# Altium integrated library ST Microcontroller 8-Bit.IntLib: 1326 symbols (part 30 of 45)
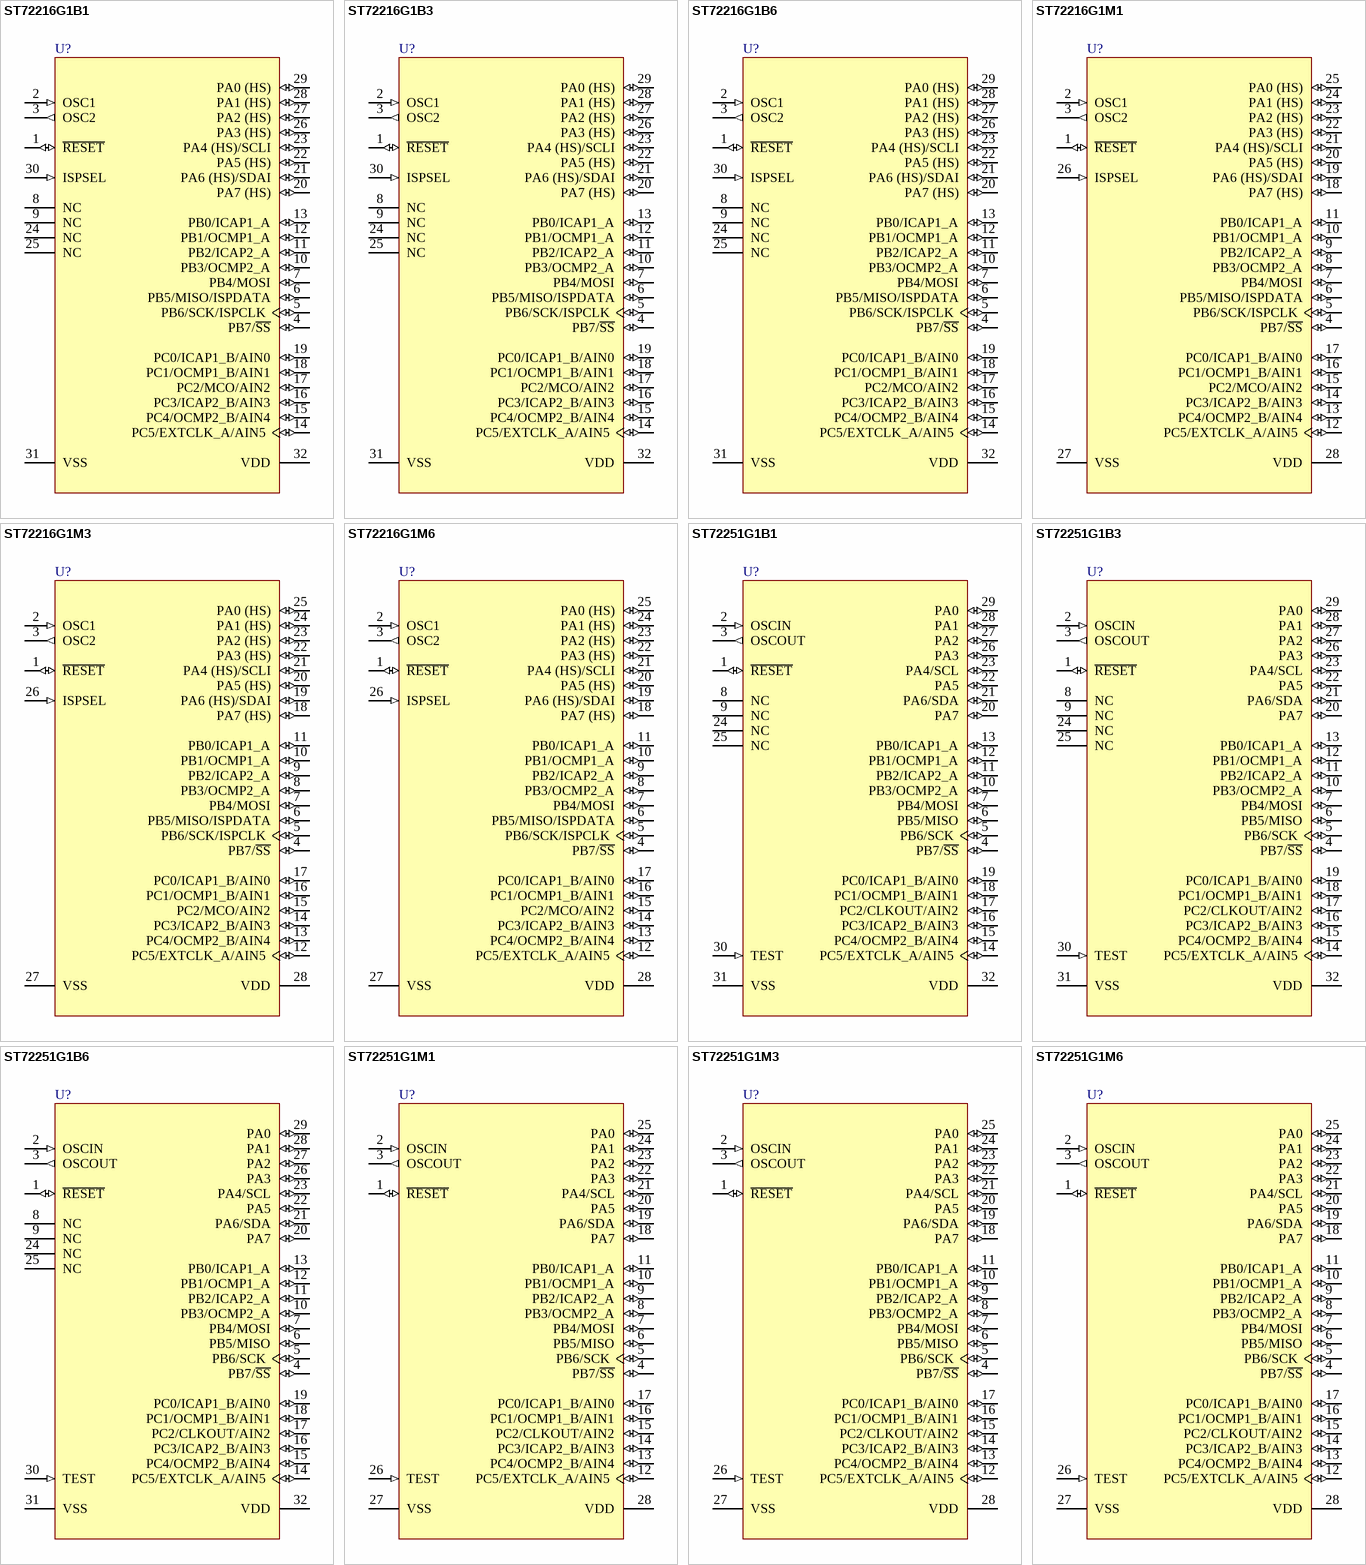
[diagram p196: symbols ST72216G1B1 to ST72251G1M6]

## ST72216G1M1
designator U?
8-Bit 4k ROM MCU, 256b RAM, WDG, ADC, 16-Bit Timer, SPI Interface, 28-Pin SOIC, Standard; Note: Pins 4-25 are External Interrupt (EI) pins.; Published: 26-May-2004; LatestRevisionDate: 13-Apr-2006; LatestRevisionNote: IPC-7351 Footprint Added.; DatasheetVersion: rev2.6, Nov-2000; PackageVersion: Jul-2001; PackageReference: SO28; Publisher: Altium Limited; PackageDescription: 28-Pin Plastic Small Outline Integrated Circuit 1.27 mm Pitch; ComponentLink1Description: Manufacturer Link; ComponentLink1URL: http://www.st.com/; ComponentLink2Description: Datasheet; ComponentLink2URL: http://www.st.com/stonline/products/literature/ds/6815/st72216g1.pdf
footprint SO28_N (SOIC, 28-Leads, Body 17.9x7.5mm, Pitch 1.27mm, IPC Medium Density)
footprint SO28_L (SOIC, 28-Leads, Body 17.9x7.5mm, Pitch 1.27mm, IPC High Density)
footprint SO28_M (SOIC, 28-Leads, Body 17.9x7.5mm, Pitch 1.27mm, IPC Low Density)
3D model SO28 (28-Pin Plastic Small Outline Integrated Circuit 1.27 mm Pitch)
pins: 1 ~{RESET} (io), 2 OSC1 (in), 3 OSC2 (out), 4 PB7/~{SS} (io), 5 PB6/SCK/ISPCLK (io), 6 PB5/MISO/ISPDATA (io), 7 PB4/MOSI (io), 8 PB3/OCMP2_A (io), 9 PB2/ICAP2_A (io), 10 PB1/OCMP1_A (io), 11 PB0/ICAP1_A (io), 12 PC5/EXTCLK_A/AIN5 (io), 13 PC4/OCMP2_B/AIN4 (io), 14 PC3/ICAP2_B/AIN3 (io), 15 PC2/MCO/AIN2 (io), 16 PC1/OCMP1_B/AIN1 (io), 17 PC0/ICAP1_B/AIN0 (io), 18 PA7 (HS) (io), 19 PA6 (HS)/SDAI (io), 20 PA5 (HS) (io), 21 PA4 (HS)/SCLI (io), 22 PA3 (HS) (io), 23 PA2 (HS) (io), 24 PA1 (HS) (io), 25 PA0 (HS) (io), 26 ISPSEL (in), 27 VSS (power), 28 VDD (power)

## ST72216G1M3
designator U?
8-Bit 4k ROM MCU, 256b RAM, WDG, ADC, 16-Bit Timer, SPI Interface, 28-Pin SOIC, Automotive; Note: Pins 4-25 are External Interrupt (EI) pins.; Published: 26-May-2004; LatestRevisionDate: 13-Apr-2006; LatestRevisionNote: IPC-7351 Footprint Added.; DatasheetVersion: rev2.6, Nov-2000; PackageVersion: Jul-2001; PackageReference: SO28; Publisher: Altium Limited; PackageDescription: 28-Pin Plastic Small Outline Integrated Circuit 1.27 mm Pitch; ComponentLink1Description: Manufacturer Link; ComponentLink1URL: http://www.st.com/; ComponentLink2Description: Datasheet; ComponentLink2URL: http://www.st.com/stonline/products/literature/ds/6815/st72216g1.pdf
footprint SO28_N (SOIC, 28-Leads, Body 17.9x7.5mm, Pitch 1.27mm, IPC Medium Density)
footprint SO28_L (SOIC, 28-Leads, Body 17.9x7.5mm, Pitch 1.27mm, IPC High Density)
footprint SO28_M (SOIC, 28-Leads, Body 17.9x7.5mm, Pitch 1.27mm, IPC Low Density)
3D model SO28 (28-Pin Plastic Small Outline Integrated Circuit 1.27 mm Pitch)
pins: 1 ~{RESET} (io), 2 OSC1 (in), 3 OSC2 (out), 4 PB7/~{SS} (io), 5 PB6/SCK/ISPCLK (io), 6 PB5/MISO/ISPDATA (io), 7 PB4/MOSI (io), 8 PB3/OCMP2_A (io), 9 PB2/ICAP2_A (io), 10 PB1/OCMP1_A (io), 11 PB0/ICAP1_A (io), 12 PC5/EXTCLK_A/AIN5 (io), 13 PC4/OCMP2_B/AIN4 (io), 14 PC3/ICAP2_B/AIN3 (io), 15 PC2/MCO/AIN2 (io), 16 PC1/OCMP1_B/AIN1 (io), 17 PC0/ICAP1_B/AIN0 (io), 18 PA7 (HS) (io), 19 PA6 (HS)/SDAI (io), 20 PA5 (HS) (io), 21 PA4 (HS)/SCLI (io), 22 PA3 (HS) (io), 23 PA2 (HS) (io), 24 PA1 (HS) (io), 25 PA0 (HS) (io), 26 ISPSEL (in), 27 VSS (power), 28 VDD (power)

## ST72216G1M6
designator U?
8-Bit 4k ROM MCU, 256b RAM, WDG, ADC, 16-Bit Timer, SPI Interface, 28-Pin SOIC, Industrial; Note: Pins 4-25 are External Interrupt (EI) pins.; Published: 26-May-2004; LatestRevisionDate: 13-Apr-2006; LatestRevisionNote: IPC-7351 Footprint Added.; DatasheetVersion: rev2.6, Nov-2000; PackageVersion: Jul-2001; PackageReference: SO28; Publisher: Altium Limited; PackageDescription: 28-Pin Plastic Small Outline Integrated Circuit 1.27 mm Pitch; ComponentLink1Description: Manufacturer Link; ComponentLink1URL: http://www.st.com/; ComponentLink2Description: Datasheet; ComponentLink2URL: http://www.st.com/stonline/products/literature/ds/6815/st72216g1.pdf
footprint SO28_N (SOIC, 28-Leads, Body 17.9x7.5mm, Pitch 1.27mm, IPC Medium Density)
footprint SO28_L (SOIC, 28-Leads, Body 17.9x7.5mm, Pitch 1.27mm, IPC High Density)
footprint SO28_M (SOIC, 28-Leads, Body 17.9x7.5mm, Pitch 1.27mm, IPC Low Density)
3D model SO28 (28-Pin Plastic Small Outline Integrated Circuit 1.27 mm Pitch)
pins: 1 ~{RESET} (io), 2 OSC1 (in), 3 OSC2 (out), 4 PB7/~{SS} (io), 5 PB6/SCK/ISPCLK (io), 6 PB5/MISO/ISPDATA (io), 7 PB4/MOSI (io), 8 PB3/OCMP2_A (io), 9 PB2/ICAP2_A (io), 10 PB1/OCMP1_A (io), 11 PB0/ICAP1_A (io), 12 PC5/EXTCLK_A/AIN5 (io), 13 PC4/OCMP2_B/AIN4 (io), 14 PC3/ICAP2_B/AIN3 (io), 15 PC2/MCO/AIN2 (io), 16 PC1/OCMP1_B/AIN1 (io), 17 PC0/ICAP1_B/AIN0 (io), 18 PA7 (HS) (io), 19 PA6 (HS)/SDAI (io), 20 PA5 (HS) (io), 21 PA4 (HS)/SCLI (io), 22 PA3 (HS) (io), 23 PA2 (HS) (io), 24 PA1 (HS) (io), 25 PA0 (HS) (io), 26 ISPSEL (in), 27 VSS (power), 28 VDD (power)

## ST72251G1B1
designator U?
8-Bit MCU with 4k ROM, 256b RAM, ADC, WDG, SPI, I²C and Two Timers, 32-Pin PDIP, Standard; Published: 26-May-2004; LatestRevisionDate: 06-Jun-2005; LatestRevisionNote: Stylized 3D Model Added.; DatasheetVersion: rev1.9, Jun-2001; PackageVersion: rev1.7, Oct-2001; PackageReference: PSDIP32; Publisher: Altium Limited; PackageDescription: DIP, Plastic Shrink; 32 Leads; Row Spacing 10.16 mm; Pitch 1.78 mm; ComponentLink1Description: Manufacturer Link; ComponentLink1URL: http://www.st.com/; ComponentLink2Description: Datasheet; ComponentLink2URL: http://www.st.com/stonline/products/literature/ds/5277/st72251g1.pdf
footprint PSDIP32 (DIP, Plastic Shrink; 32 Leads; Row Spacing 10.16 mm; Pitch 1.78 mm)
3D model PSDIP32 (DIP, Plastic Shrink; 32 Leads; Row Spacing 10.16 mm; Pitch 1.78 mm)
pins: 1 ~{RESET} (io), 2 OSCIN (in), 3 OSCOUT (out), 4 PB7/~{SS} (io), 5 PB6/SCK (io), 6 PB5/MISO (io), 7 PB4/MOSI (io), 8 NC, 9 NC, 10 PB3/OCMP2_A (io), 11 PB2/ICAP2_A (io), 12 PB1/OCMP1_A (io), 13 PB0/ICAP1_A (io), 14 PC5/EXTCLK_A/AIN5 (io), 15 PC4/OCMP2_B/AIN4 (io), 16 PC3/ICAP2_B/AIN3 (io), 17 PC2/CLKOUT/AIN2 (io), 18 PC1/OCMP1_B/AIN1 (io), 19 PC0/ICAP1_B/AIN0 (io), 20 PA7 (io), 21 PA6/SDA (io), 22 PA5 (io), 23 PA4/SCL (io), 24 NC, 25 NC, 26 PA3 (io), 27 PA2 (io), 28 PA1 (io), 29 PA0 (io), 30 TEST (in), 31 VSS (power), 32 VDD (power)

## ST72251G1B3
designator U?
8-Bit MCU with 4k ROM, 256b RAM, ADC, WDG, SPI, I²C and Two Timers, 32-Pin PDIP, Automotive; Published: 26-May-2004; LatestRevisionDate: 06-Jun-2005; LatestRevisionNote: Stylized 3D Model Added.; DatasheetVersion: rev1.9, Jun-2001; PackageVersion: rev1.7, Oct-2001; PackageReference: PSDIP32; Publisher: Altium Limited; PackageDescription: DIP, Plastic Shrink; 32 Leads; Row Spacing 10.16 mm; Pitch 1.78 mm; ComponentLink1Description: Manufacturer Link; ComponentLink1URL: http://www.st.com/; ComponentLink2Description: Datasheet; ComponentLink2URL: http://www.st.com/stonline/products/literature/ds/5277/st72251g1.pdf
footprint PSDIP32 (DIP, Plastic Shrink; 32 Leads; Row Spacing 10.16 mm; Pitch 1.78 mm)
3D model PSDIP32 (DIP, Plastic Shrink; 32 Leads; Row Spacing 10.16 mm; Pitch 1.78 mm)
pins: 1 ~{RESET} (io), 2 OSCIN (in), 3 OSCOUT (out), 4 PB7/~{SS} (io), 5 PB6/SCK (io), 6 PB5/MISO (io), 7 PB4/MOSI (io), 8 NC, 9 NC, 10 PB3/OCMP2_A (io), 11 PB2/ICAP2_A (io), 12 PB1/OCMP1_A (io), 13 PB0/ICAP1_A (io), 14 PC5/EXTCLK_A/AIN5 (io), 15 PC4/OCMP2_B/AIN4 (io), 16 PC3/ICAP2_B/AIN3 (io), 17 PC2/CLKOUT/AIN2 (io), 18 PC1/OCMP1_B/AIN1 (io), 19 PC0/ICAP1_B/AIN0 (io), 20 PA7 (io), 21 PA6/SDA (io), 22 PA5 (io), 23 PA4/SCL (io), 24 NC, 25 NC, 26 PA3 (io), 27 PA2 (io), 28 PA1 (io), 29 PA0 (io), 30 TEST (in), 31 VSS (power), 32 VDD (power)

## ST72251G1B6
designator U?
8-Bit MCU with 4k ROM, 256b RAM, ADC, WDG, SPI, I²C and Two Timers, 32-Pin PDIP, Industrial; Published: 26-May-2004; LatestRevisionDate: 06-Jun-2005; LatestRevisionNote: Stylized 3D Model Added.; DatasheetVersion: rev1.9, Jun-2001; PackageVersion: rev1.7, Oct-2001; PackageReference: PSDIP32; Publisher: Altium Limited; PackageDescription: DIP, Plastic Shrink; 32 Leads; Row Spacing 10.16 mm; Pitch 1.78 mm; ComponentLink1Description: Manufacturer Link; ComponentLink1URL: http://www.st.com/; ComponentLink2Description: Datasheet; ComponentLink2URL: http://www.st.com/stonline/products/literature/ds/5277/st72251g1.pdf
footprint PSDIP32 (DIP, Plastic Shrink; 32 Leads; Row Spacing 10.16 mm; Pitch 1.78 mm)
3D model PSDIP32 (DIP, Plastic Shrink; 32 Leads; Row Spacing 10.16 mm; Pitch 1.78 mm)
pins: 1 ~{RESET} (io), 2 OSCIN (in), 3 OSCOUT (out), 4 PB7/~{SS} (io), 5 PB6/SCK (io), 6 PB5/MISO (io), 7 PB4/MOSI (io), 8 NC, 9 NC, 10 PB3/OCMP2_A (io), 11 PB2/ICAP2_A (io), 12 PB1/OCMP1_A (io), 13 PB0/ICAP1_A (io), 14 PC5/EXTCLK_A/AIN5 (io), 15 PC4/OCMP2_B/AIN4 (io), 16 PC3/ICAP2_B/AIN3 (io), 17 PC2/CLKOUT/AIN2 (io), 18 PC1/OCMP1_B/AIN1 (io), 19 PC0/ICAP1_B/AIN0 (io), 20 PA7 (io), 21 PA6/SDA (io), 22 PA5 (io), 23 PA4/SCL (io), 24 NC, 25 NC, 26 PA3 (io), 27 PA2 (io), 28 PA1 (io), 29 PA0 (io), 30 TEST (in), 31 VSS (power), 32 VDD (power)

## ST72251G1M1
designator U?
8-Bit MCU with 4k ROM, 256b RAM, ADC, WDG, SPI, I²C and Two Timers, 28-Pin SOIC, Standard; Published: 26-May-2004; LatestRevisionDate: 13-Apr-2006; LatestRevisionNote: IPC-7351 Footprint Added.; DatasheetVersion: rev1.9, Jun-2001; PackageVersion: Jul-2001; PackageReference: SO28; Publisher: Altium Limited; PackageDescription: 28-Pin Plastic Small Outline Integrated Circuit 1.27 mm Pitch; ComponentLink1Description: Manufacturer Link; ComponentLink1URL: http://www.st.com/; ComponentLink2Description: Datasheet; ComponentLink2URL: http://www.st.com/stonline/products/literature/ds/5277/st72251g1.pdf
footprint SO28_N (SOIC, 28-Leads, Body 17.9x7.5mm, Pitch 1.27mm, IPC Medium Density)
footprint SO28_L (SOIC, 28-Leads, Body 17.9x7.5mm, Pitch 1.27mm, IPC High Density)
footprint SO28_M (SOIC, 28-Leads, Body 17.9x7.5mm, Pitch 1.27mm, IPC Low Density)
3D model SO28 (28-Pin Plastic Small Outline Integrated Circuit 1.27 mm Pitch)
pins: 1 ~{RESET} (io), 2 OSCIN (in), 3 OSCOUT (out), 4 PB7/~{SS} (io), 5 PB6/SCK (io), 6 PB5/MISO (io), 7 PB4/MOSI (io), 8 PB3/OCMP2_A (io), 9 PB2/ICAP2_A (io), 10 PB1/OCMP1_A (io), 11 PB0/ICAP1_A (io), 12 PC5/EXTCLK_A/AIN5 (io), 13 PC4/OCMP2_B/AIN4 (io), 14 PC3/ICAP2_B/AIN3 (io), 15 PC2/CLKOUT/AIN2 (io), 16 PC1/OCMP1_B/AIN1 (io), 17 PC0/ICAP1_B/AIN0 (io), 18 PA7 (io), 19 PA6/SDA (io), 20 PA5 (io), 21 PA4/SCL (io), 22 PA3 (io), 23 PA2 (io), 24 PA1 (io), 25 PA0 (io), 26 TEST (in), 27 VSS (power), 28 VDD (power)

## ST72251G1M3
designator U?
8-Bit MCU with 4k ROM, 256b RAM, ADC, WDG, SPI, I²C and Two Timers, 28-Pin SOIC, Automotive; Published: 26-May-2004; LatestRevisionDate: 13-Apr-2006; LatestRevisionNote: IPC-7351 Footprint Added.; DatasheetVersion: rev1.9, Jun-2001; PackageVersion: Jul-2001; PackageReference: SO28; Publisher: Altium Limited; PackageDescription: 28-Pin Plastic Small Outline Integrated Circuit 1.27 mm Pitch; ComponentLink1Description: Manufacturer Link; ComponentLink1URL: http://www.st.com/; ComponentLink2Description: Datasheet; ComponentLink2URL: http://www.st.com/stonline/products/literature/ds/5277/st72251g1.pdf
footprint SO28_N (SOIC, 28-Leads, Body 17.9x7.5mm, Pitch 1.27mm, IPC Medium Density)
footprint SO28_L (SOIC, 28-Leads, Body 17.9x7.5mm, Pitch 1.27mm, IPC High Density)
footprint SO28_M (SOIC, 28-Leads, Body 17.9x7.5mm, Pitch 1.27mm, IPC Low Density)
3D model SO28 (28-Pin Plastic Small Outline Integrated Circuit 1.27 mm Pitch)
pins: 1 ~{RESET} (io), 2 OSCIN (in), 3 OSCOUT (out), 4 PB7/~{SS} (io), 5 PB6/SCK (io), 6 PB5/MISO (io), 7 PB4/MOSI (io), 8 PB3/OCMP2_A (io), 9 PB2/ICAP2_A (io), 10 PB1/OCMP1_A (io), 11 PB0/ICAP1_A (io), 12 PC5/EXTCLK_A/AIN5 (io), 13 PC4/OCMP2_B/AIN4 (io), 14 PC3/ICAP2_B/AIN3 (io), 15 PC2/CLKOUT/AIN2 (io), 16 PC1/OCMP1_B/AIN1 (io), 17 PC0/ICAP1_B/AIN0 (io), 18 PA7 (io), 19 PA6/SDA (io), 20 PA5 (io), 21 PA4/SCL (io), 22 PA3 (io), 23 PA2 (io), 24 PA1 (io), 25 PA0 (io), 26 TEST (in), 27 VSS (power), 28 VDD (power)

## ST72251G1M6
designator U?
8-Bit MCU with 4k ROM, 256b RAM, ADC, WDG, SPI, I²C and Two Timers, 28-Pin SOIC, Industrial; Published: 26-May-2004; LatestRevisionDate: 13-Apr-2006; LatestRevisionNote: IPC-7351 Footprint Added.; DatasheetVersion: rev1.9, Jun-2001; PackageVersion: Jul-2001; PackageReference: SO28; Publisher: Altium Limited; PackageDescription: 28-Pin Plastic Small Outline Integrated Circuit 1.27 mm Pitch; ComponentLink1Description: Manufacturer Link; ComponentLink1URL: http://www.st.com/; ComponentLink2Description: Datasheet; ComponentLink2URL: http://www.st.com/stonline/products/literature/ds/5277/st72251g1.pdf
footprint SO28_N (SOIC, 28-Leads, Body 17.9x7.5mm, Pitch 1.27mm, IPC Medium Density)
footprint SO28_L (SOIC, 28-Leads, Body 17.9x7.5mm, Pitch 1.27mm, IPC High Density)
footprint SO28_M (SOIC, 28-Leads, Body 17.9x7.5mm, Pitch 1.27mm, IPC Low Density)
3D model SO28 (28-Pin Plastic Small Outline Integrated Circuit 1.27 mm Pitch)
pins: 1 ~{RESET} (io), 2 OSCIN (in), 3 OSCOUT (out), 4 PB7/~{SS} (io), 5 PB6/SCK (io), 6 PB5/MISO (io), 7 PB4/MOSI (io), 8 PB3/OCMP2_A (io), 9 PB2/ICAP2_A (io), 10 PB1/OCMP1_A (io), 11 PB0/ICAP1_A (io), 12 PC5/EXTCLK_A/AIN5 (io), 13 PC4/OCMP2_B/AIN4 (io), 14 PC3/ICAP2_B/AIN3 (io), 15 PC2/CLKOUT/AIN2 (io), 16 PC1/OCMP1_B/AIN1 (io), 17 PC0/ICAP1_B/AIN0 (io), 18 PA7 (io), 19 PA6/SDA (io), 20 PA5 (io), 21 PA4/SCL (io), 22 PA3 (io), 23 PA2 (io), 24 PA1 (io), 25 PA0 (io), 26 TEST (in), 27 VSS (power), 28 VDD (power)

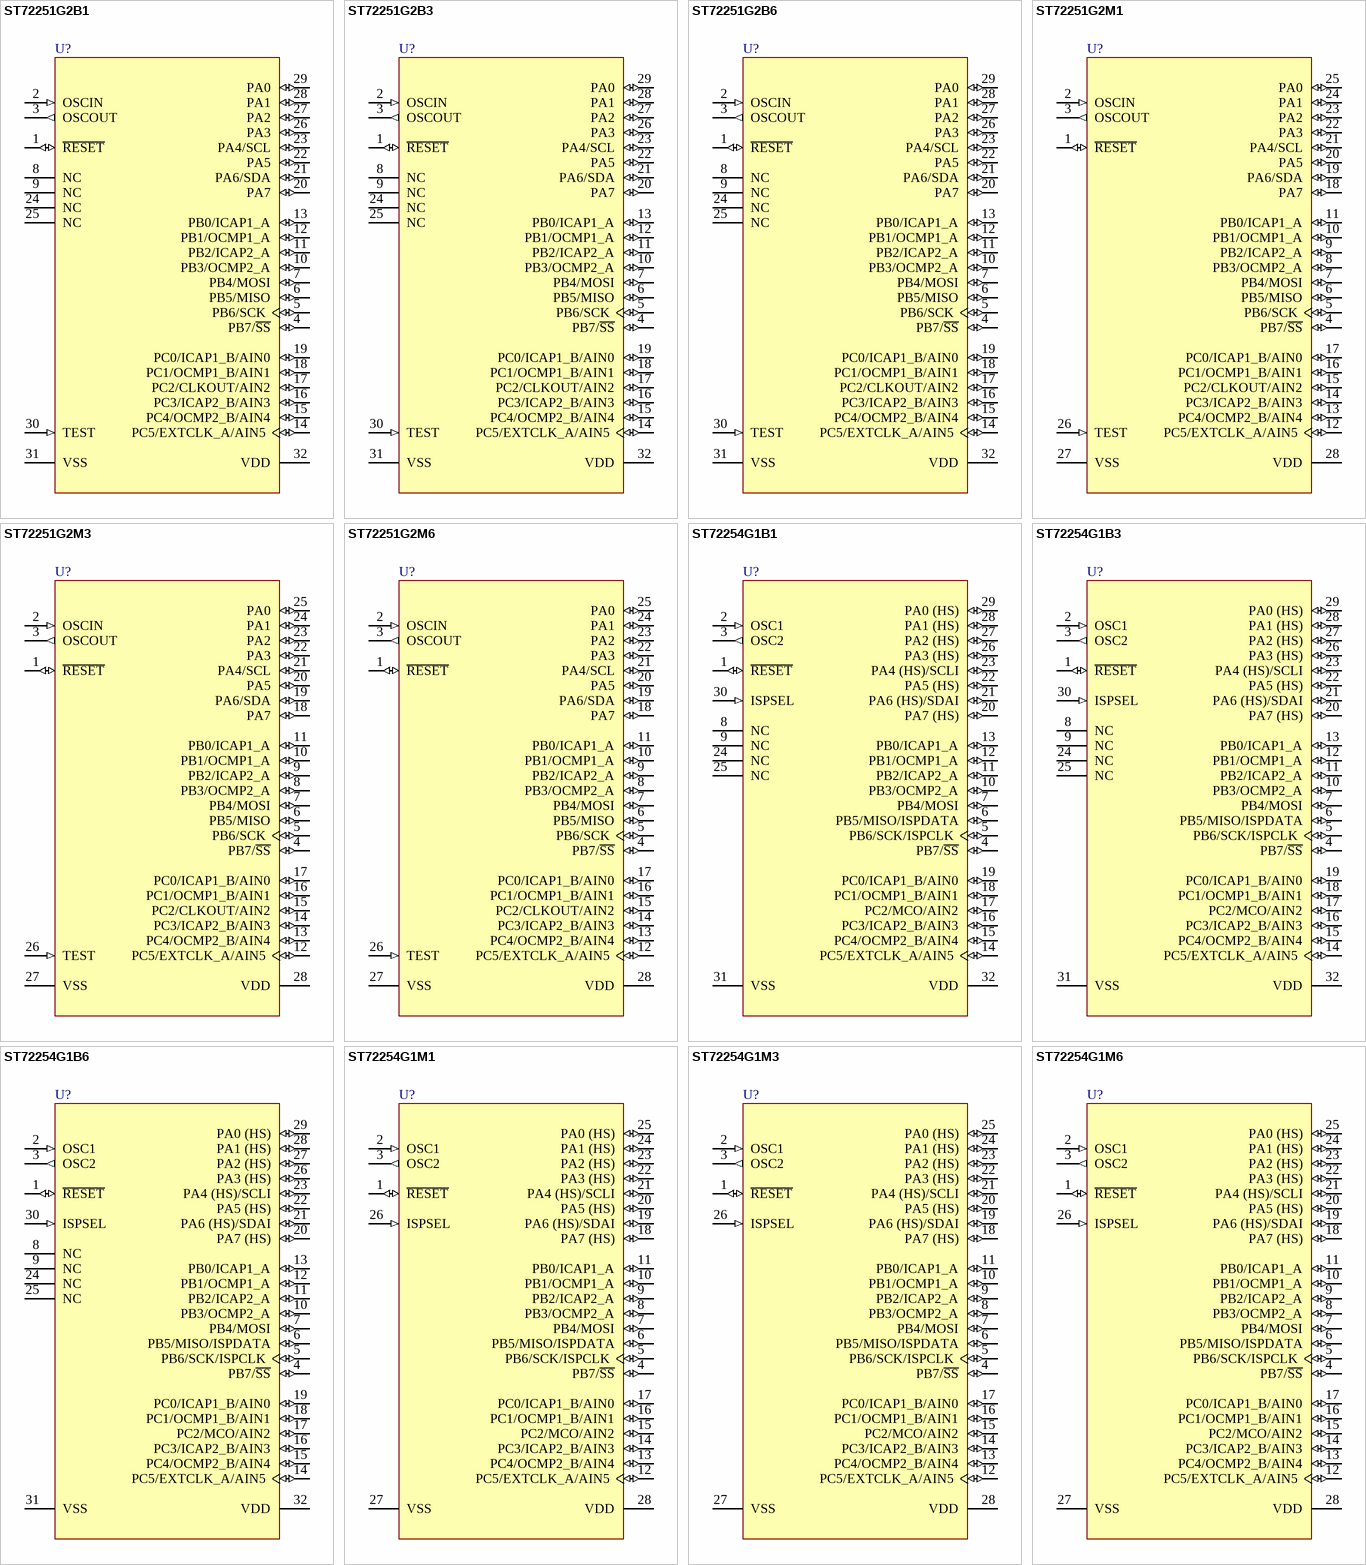
[diagram p101: symbols ST72251G2B1 to ST72254G1M6]

## ST72251G2B1
designator U?
8-Bit MCU with 8k ROM, 256b RAM, ADC, WDG, SPI, I²C and Two Timers, 32-Pin PDIP, Standard; Published: 26-May-2004; LatestRevisionDate: 06-Jun-2005; LatestRevisionNote: Stylized 3D Model Added.; DatasheetVersion: rev1.9, Jun-2001; PackageVersion: rev1.7, Oct-2001; PackageReference: PSDIP32; Publisher: Altium Limited; PackageDescription: DIP, Plastic Shrink; 32 Leads; Row Spacing 10.16 mm; Pitch 1.78 mm; ComponentLink1Description: Manufacturer Link; ComponentLink1URL: http://www.st.com/; ComponentLink2Description: Datasheet; ComponentLink2URL: http://www.st.com/stonline/products/literature/ds/5277/st72251g1.pdf
footprint PSDIP32 (DIP, Plastic Shrink; 32 Leads; Row Spacing 10.16 mm; Pitch 1.78 mm)
3D model PSDIP32 (DIP, Plastic Shrink; 32 Leads; Row Spacing 10.16 mm; Pitch 1.78 mm)
pins: 1 ~{RESET} (io), 2 OSCIN (in), 3 OSCOUT (out), 4 PB7/~{SS} (io), 5 PB6/SCK (io), 6 PB5/MISO (io), 7 PB4/MOSI (io), 8 NC, 9 NC, 10 PB3/OCMP2_A (io), 11 PB2/ICAP2_A (io), 12 PB1/OCMP1_A (io), 13 PB0/ICAP1_A (io), 14 PC5/EXTCLK_A/AIN5 (io), 15 PC4/OCMP2_B/AIN4 (io), 16 PC3/ICAP2_B/AIN3 (io), 17 PC2/CLKOUT/AIN2 (io), 18 PC1/OCMP1_B/AIN1 (io), 19 PC0/ICAP1_B/AIN0 (io), 20 PA7 (io), 21 PA6/SDA (io), 22 PA5 (io), 23 PA4/SCL (io), 24 NC, 25 NC, 26 PA3 (io), 27 PA2 (io), 28 PA1 (io), 29 PA0 (io), 30 TEST (in), 31 VSS (power), 32 VDD (power)

## ST72251G2B3
designator U?
8-Bit MCU with 8k ROM, 256b RAM, ADC, WDG, SPI, I²C and Two Timers, 32-Pin PDIP, Automotive; Published: 26-May-2004; LatestRevisionDate: 06-Jun-2005; LatestRevisionNote: Stylized 3D Model Added.; DatasheetVersion: rev1.9, Jun-2001; PackageVersion: rev1.7, Oct-2001; PackageReference: PSDIP32; Publisher: Altium Limited; PackageDescription: DIP, Plastic Shrink; 32 Leads; Row Spacing 10.16 mm; Pitch 1.78 mm; ComponentLink1Description: Manufacturer Link; ComponentLink1URL: http://www.st.com/; ComponentLink2Description: Datasheet; ComponentLink2URL: http://www.st.com/stonline/products/literature/ds/5277/st72251g1.pdf
footprint PSDIP32 (DIP, Plastic Shrink; 32 Leads; Row Spacing 10.16 mm; Pitch 1.78 mm)
3D model PSDIP32 (DIP, Plastic Shrink; 32 Leads; Row Spacing 10.16 mm; Pitch 1.78 mm)
pins: 1 ~{RESET} (io), 2 OSCIN (in), 3 OSCOUT (out), 4 PB7/~{SS} (io), 5 PB6/SCK (io), 6 PB5/MISO (io), 7 PB4/MOSI (io), 8 NC, 9 NC, 10 PB3/OCMP2_A (io), 11 PB2/ICAP2_A (io), 12 PB1/OCMP1_A (io), 13 PB0/ICAP1_A (io), 14 PC5/EXTCLK_A/AIN5 (io), 15 PC4/OCMP2_B/AIN4 (io), 16 PC3/ICAP2_B/AIN3 (io), 17 PC2/CLKOUT/AIN2 (io), 18 PC1/OCMP1_B/AIN1 (io), 19 PC0/ICAP1_B/AIN0 (io), 20 PA7 (io), 21 PA6/SDA (io), 22 PA5 (io), 23 PA4/SCL (io), 24 NC, 25 NC, 26 PA3 (io), 27 PA2 (io), 28 PA1 (io), 29 PA0 (io), 30 TEST (in), 31 VSS (power), 32 VDD (power)

## ST72251G2B6
designator U?
8-Bit MCU with 8k ROM, 256b RAM, ADC, WDG, SPI, I²C and Two Timers, 32-Pin PDIP, Industrial; Published: 26-May-2004; LatestRevisionDate: 06-Jun-2005; LatestRevisionNote: Stylized 3D Model Added.; DatasheetVersion: rev1.9, Jun-2001; PackageVersion: rev1.7, Oct-2001; PackageReference: PSDIP32; Publisher: Altium Limited; PackageDescription: DIP, Plastic Shrink; 32 Leads; Row Spacing 10.16 mm; Pitch 1.78 mm; ComponentLink1Description: Manufacturer Link; ComponentLink1URL: http://www.st.com/; ComponentLink2Description: Datasheet; ComponentLink2URL: http://www.st.com/stonline/products/literature/ds/5277/st72251g1.pdf
footprint PSDIP32 (DIP, Plastic Shrink; 32 Leads; Row Spacing 10.16 mm; Pitch 1.78 mm)
3D model PSDIP32 (DIP, Plastic Shrink; 32 Leads; Row Spacing 10.16 mm; Pitch 1.78 mm)
pins: 1 ~{RESET} (io), 2 OSCIN (in), 3 OSCOUT (out), 4 PB7/~{SS} (io), 5 PB6/SCK (io), 6 PB5/MISO (io), 7 PB4/MOSI (io), 8 NC, 9 NC, 10 PB3/OCMP2_A (io), 11 PB2/ICAP2_A (io), 12 PB1/OCMP1_A (io), 13 PB0/ICAP1_A (io), 14 PC5/EXTCLK_A/AIN5 (io), 15 PC4/OCMP2_B/AIN4 (io), 16 PC3/ICAP2_B/AIN3 (io), 17 PC2/CLKOUT/AIN2 (io), 18 PC1/OCMP1_B/AIN1 (io), 19 PC0/ICAP1_B/AIN0 (io), 20 PA7 (io), 21 PA6/SDA (io), 22 PA5 (io), 23 PA4/SCL (io), 24 NC, 25 NC, 26 PA3 (io), 27 PA2 (io), 28 PA1 (io), 29 PA0 (io), 30 TEST (in), 31 VSS (power), 32 VDD (power)

## ST72251G2M1
designator U?
8-Bit MCU with 8k ROM, 256b RAM, ADC, WDG, SPI, I²C and Two Timers, 28-Pin SOIC, Standard; Published: 26-May-2004; LatestRevisionDate: 13-Apr-2006; LatestRevisionNote: IPC-7351 Footprint Added.; DatasheetVersion: rev1.9, Jun-2001; PackageVersion: Jul-2001; PackageReference: SO28; Publisher: Altium Limited; PackageDescription: 28-Pin Plastic Small Outline Integrated Circuit 1.27 mm Pitch; ComponentLink1Description: Manufacturer Link; ComponentLink1URL: http://www.st.com/; ComponentLink2Description: Datasheet; ComponentLink2URL: http://www.st.com/stonline/products/literature/ds/5277/st72251g1.pdf
footprint SO28_N (SOIC, 28-Leads, Body 17.9x7.5mm, Pitch 1.27mm, IPC Medium Density)
footprint SO28_L (SOIC, 28-Leads, Body 17.9x7.5mm, Pitch 1.27mm, IPC High Density)
footprint SO28_M (SOIC, 28-Leads, Body 17.9x7.5mm, Pitch 1.27mm, IPC Low Density)
3D model SO28 (28-Pin Plastic Small Outline Integrated Circuit 1.27 mm Pitch)
pins: 1 ~{RESET} (io), 2 OSCIN (in), 3 OSCOUT (out), 4 PB7/~{SS} (io), 5 PB6/SCK (io), 6 PB5/MISO (io), 7 PB4/MOSI (io), 8 PB3/OCMP2_A (io), 9 PB2/ICAP2_A (io), 10 PB1/OCMP1_A (io), 11 PB0/ICAP1_A (io), 12 PC5/EXTCLK_A/AIN5 (io), 13 PC4/OCMP2_B/AIN4 (io), 14 PC3/ICAP2_B/AIN3 (io), 15 PC2/CLKOUT/AIN2 (io), 16 PC1/OCMP1_B/AIN1 (io), 17 PC0/ICAP1_B/AIN0 (io), 18 PA7 (io), 19 PA6/SDA (io), 20 PA5 (io), 21 PA4/SCL (io), 22 PA3 (io), 23 PA2 (io), 24 PA1 (io), 25 PA0 (io), 26 TEST (in), 27 VSS (power), 28 VDD (power)

## ST72251G2M3
designator U?
8-Bit MCU with 8k ROM, 256b RAM, ADC, WDG, SPI, I²C and Two Timers, 28-Pin SOIC, Automotive; Published: 26-May-2004; LatestRevisionDate: 13-Apr-2006; LatestRevisionNote: IPC-7351 Footprint Added.; DatasheetVersion: rev1.9, Jun-2001; PackageVersion: Jul-2001; PackageReference: SO28; Publisher: Altium Limited; PackageDescription: 28-Pin Plastic Small Outline Integrated Circuit 1.27 mm Pitch; ComponentLink1Description: Manufacturer Link; ComponentLink1URL: http://www.st.com/; ComponentLink2Description: Datasheet; ComponentLink2URL: http://www.st.com/stonline/products/literature/ds/5277/st72251g1.pdf
footprint SO28_N (SOIC, 28-Leads, Body 17.9x7.5mm, Pitch 1.27mm, IPC Medium Density)
footprint SO28_L (SOIC, 28-Leads, Body 17.9x7.5mm, Pitch 1.27mm, IPC High Density)
footprint SO28_M (SOIC, 28-Leads, Body 17.9x7.5mm, Pitch 1.27mm, IPC Low Density)
3D model SO28 (28-Pin Plastic Small Outline Integrated Circuit 1.27 mm Pitch)
pins: 1 ~{RESET} (io), 2 OSCIN (in), 3 OSCOUT (out), 4 PB7/~{SS} (io), 5 PB6/SCK (io), 6 PB5/MISO (io), 7 PB4/MOSI (io), 8 PB3/OCMP2_A (io), 9 PB2/ICAP2_A (io), 10 PB1/OCMP1_A (io), 11 PB0/ICAP1_A (io), 12 PC5/EXTCLK_A/AIN5 (io), 13 PC4/OCMP2_B/AIN4 (io), 14 PC3/ICAP2_B/AIN3 (io), 15 PC2/CLKOUT/AIN2 (io), 16 PC1/OCMP1_B/AIN1 (io), 17 PC0/ICAP1_B/AIN0 (io), 18 PA7 (io), 19 PA6/SDA (io), 20 PA5 (io), 21 PA4/SCL (io), 22 PA3 (io), 23 PA2 (io), 24 PA1 (io), 25 PA0 (io), 26 TEST (in), 27 VSS (power), 28 VDD (power)

## ST72251G2M6
designator U?
8-Bit MCU with 8k ROM, 256b RAM, ADC, WDG, SPI, I²C and Two Timers, 28-Pin SOIC, Industrial; Published: 26-May-2004; LatestRevisionDate: 13-Apr-2006; LatestRevisionNote: IPC-7351 Footprint Added.; DatasheetVersion: rev1.9, Jun-2001; PackageVersion: Jul-2001; PackageReference: SO28; Publisher: Altium Limited; PackageDescription: 28-Pin Plastic Small Outline Integrated Circuit 1.27 mm Pitch; ComponentLink1Description: Manufacturer Link; ComponentLink1URL: http://www.st.com/; ComponentLink2Description: Datasheet; ComponentLink2URL: http://www.st.com/stonline/products/literature/ds/5277/st72251g1.pdf
footprint SO28_N (SOIC, 28-Leads, Body 17.9x7.5mm, Pitch 1.27mm, IPC Medium Density)
footprint SO28_L (SOIC, 28-Leads, Body 17.9x7.5mm, Pitch 1.27mm, IPC High Density)
footprint SO28_M (SOIC, 28-Leads, Body 17.9x7.5mm, Pitch 1.27mm, IPC Low Density)
3D model SO28 (28-Pin Plastic Small Outline Integrated Circuit 1.27 mm Pitch)
pins: 1 ~{RESET} (io), 2 OSCIN (in), 3 OSCOUT (out), 4 PB7/~{SS} (io), 5 PB6/SCK (io), 6 PB5/MISO (io), 7 PB4/MOSI (io), 8 PB3/OCMP2_A (io), 9 PB2/ICAP2_A (io), 10 PB1/OCMP1_A (io), 11 PB0/ICAP1_A (io), 12 PC5/EXTCLK_A/AIN5 (io), 13 PC4/OCMP2_B/AIN4 (io), 14 PC3/ICAP2_B/AIN3 (io), 15 PC2/CLKOUT/AIN2 (io), 16 PC1/OCMP1_B/AIN1 (io), 17 PC0/ICAP1_B/AIN0 (io), 18 PA7 (io), 19 PA6/SDA (io), 20 PA5 (io), 21 PA4/SCL (io), 22 PA3 (io), 23 PA2 (io), 24 PA1 (io), 25 PA0 (io), 26 TEST (in), 27 VSS (power), 28 VDD (power)

## ST72254G1B1
designator U?
8-Bit 4k ROM MCU, 256b RAM, WDG, ADC, 16-Bit Timers, SPI and I²C Interface, 32-Pin PDIP, Standard; Note: Pins 4-7, 14-23 and 26-29 are External Interrupt (EI) pins.; Published: 26-May-2004; LatestRevisionDate: 06-Jun-2005; LatestRevisionNote: Stylized 3D Model Added.; DatasheetVersion: rev2.6, Nov-2000; PackageVersion: rev1.7, Oct-2001; PackageReference: PSDIP32; Publisher: Altium Limited; PackageDescription: DIP, Plastic Shrink; 32 Leads; Row Spacing 10.16 mm; Pitch 1.78 mm; ComponentLink1Description: Manufacturer Link; ComponentLink1URL: http://www.st.com/; ComponentLink2Description: Datasheet; ComponentLink2URL: http://www.st.com/stonline/products/literature/ds/6815/st72254g1.pdf
footprint PSDIP32 (DIP, Plastic Shrink; 32 Leads; Row Spacing 10.16 mm; Pitch 1.78 mm)
3D model PSDIP32 (DIP, Plastic Shrink; 32 Leads; Row Spacing 10.16 mm; Pitch 1.78 mm)
pins: 1 ~{RESET} (io), 2 OSC1 (in), 3 OSC2 (out), 4 PB7/~{SS} (io), 5 PB6/SCK/ISPCLK (io), 6 PB5/MISO/ISPDATA (io), 7 PB4/MOSI (io), 8 NC, 9 NC, 10 PB3/OCMP2_A (io), 11 PB2/ICAP2_A (io), 12 PB1/OCMP1_A (io), 13 PB0/ICAP1_A (io), 14 PC5/EXTCLK_A/AIN5 (io), 15 PC4/OCMP2_B/AIN4 (io), 16 PC3/ICAP2_B/AIN3 (io), 17 PC2/MCO/AIN2 (io), 18 PC1/OCMP1_B/AIN1 (io), 19 PC0/ICAP1_B/AIN0 (io), 20 PA7 (HS) (io), 21 PA6 (HS)/SDAI (io), 22 PA5 (HS) (io), 23 PA4 (HS)/SCLI (io), 24 NC, 25 NC, 26 PA3 (HS) (io), 27 PA2 (HS) (io), 28 PA1 (HS) (io), 29 PA0 (HS) (io), 30 ISPSEL (in), 31 VSS (power), 32 VDD (power)

## ST72254G1B3
designator U?
8-Bit 4k ROM MCU, 256b RAM, WDG, ADC, 16-Bit Timers, SPI and I²C Interface, 32-Pin PDIP, Automotive; Note: Pins 4-7, 14-23 and 26-29 are External Interrupt (EI) pins.; Published: 26-May-2004; LatestRevisionDate: 06-Jun-2005; LatestRevisionNote: Stylized 3D Model Added.; DatasheetVersion: rev2.6, Nov-2000; PackageVersion: rev1.7, Oct-2001; PackageReference: PSDIP32; Publisher: Altium Limited; PackageDescription: DIP, Plastic Shrink; 32 Leads; Row Spacing 10.16 mm; Pitch 1.78 mm; ComponentLink1Description: Manufacturer Link; ComponentLink1URL: http://www.st.com/; ComponentLink2Description: Datasheet; ComponentLink2URL: http://www.st.com/stonline/products/literature/ds/6815/st72254g1.pdf
footprint PSDIP32 (DIP, Plastic Shrink; 32 Leads; Row Spacing 10.16 mm; Pitch 1.78 mm)
3D model PSDIP32 (DIP, Plastic Shrink; 32 Leads; Row Spacing 10.16 mm; Pitch 1.78 mm)
pins: 1 ~{RESET} (io), 2 OSC1 (in), 3 OSC2 (out), 4 PB7/~{SS} (io), 5 PB6/SCK/ISPCLK (io), 6 PB5/MISO/ISPDATA (io), 7 PB4/MOSI (io), 8 NC, 9 NC, 10 PB3/OCMP2_A (io), 11 PB2/ICAP2_A (io), 12 PB1/OCMP1_A (io), 13 PB0/ICAP1_A (io), 14 PC5/EXTCLK_A/AIN5 (io), 15 PC4/OCMP2_B/AIN4 (io), 16 PC3/ICAP2_B/AIN3 (io), 17 PC2/MCO/AIN2 (io), 18 PC1/OCMP1_B/AIN1 (io), 19 PC0/ICAP1_B/AIN0 (io), 20 PA7 (HS) (io), 21 PA6 (HS)/SDAI (io), 22 PA5 (HS) (io), 23 PA4 (HS)/SCLI (io), 24 NC, 25 NC, 26 PA3 (HS) (io), 27 PA2 (HS) (io), 28 PA1 (HS) (io), 29 PA0 (HS) (io), 30 ISPSEL (in), 31 VSS (power), 32 VDD (power)

## ST72254G1B6
designator U?
8-Bit 4k ROM MCU, 256b RAM, WDG, ADC, 16-Bit Timers, SPI and I²C Interface, 32-Pin PDIP, Industrial; Note: Pins 4-7, 14-23 and 26-29 are External Interrupt (EI) pins.; Published: 26-May-2004; LatestRevisionDate: 06-Jun-2005; LatestRevisionNote: Stylized 3D Model Added.; DatasheetVersion: rev2.6, Nov-2000; PackageVersion: rev1.7, Oct-2001; PackageReference: PSDIP32; Publisher: Altium Limited; PackageDescription: DIP, Plastic Shrink; 32 Leads; Row Spacing 10.16 mm; Pitch 1.78 mm; ComponentLink1Description: Manufacturer Link; ComponentLink1URL: http://www.st.com/; ComponentLink2Description: Datasheet; ComponentLink2URL: http://www.st.com/stonline/products/literature/ds/6815/st72254g1.pdf
footprint PSDIP32 (DIP, Plastic Shrink; 32 Leads; Row Spacing 10.16 mm; Pitch 1.78 mm)
3D model PSDIP32 (DIP, Plastic Shrink; 32 Leads; Row Spacing 10.16 mm; Pitch 1.78 mm)
pins: 1 ~{RESET} (io), 2 OSC1 (in), 3 OSC2 (out), 4 PB7/~{SS} (io), 5 PB6/SCK/ISPCLK (io), 6 PB5/MISO/ISPDATA (io), 7 PB4/MOSI (io), 8 NC, 9 NC, 10 PB3/OCMP2_A (io), 11 PB2/ICAP2_A (io), 12 PB1/OCMP1_A (io), 13 PB0/ICAP1_A (io), 14 PC5/EXTCLK_A/AIN5 (io), 15 PC4/OCMP2_B/AIN4 (io), 16 PC3/ICAP2_B/AIN3 (io), 17 PC2/MCO/AIN2 (io), 18 PC1/OCMP1_B/AIN1 (io), 19 PC0/ICAP1_B/AIN0 (io), 20 PA7 (HS) (io), 21 PA6 (HS)/SDAI (io), 22 PA5 (HS) (io), 23 PA4 (HS)/SCLI (io), 24 NC, 25 NC, 26 PA3 (HS) (io), 27 PA2 (HS) (io), 28 PA1 (HS) (io), 29 PA0 (HS) (io), 30 ISPSEL (in), 31 VSS (power), 32 VDD (power)

## ST72254G1M1
designator U?
8-Bit 4k ROM MCU, 256b RAM, WDG, ADC, 16-Bit Timers, SPI and I²C Interface, 28-Pin SOIC, Standard; Note: Pins 4-25 are External Interrupt (EI) pins.; Published: 26-May-2004; LatestRevisionDate: 13-Apr-2006; LatestRevisionNote: IPC-7351 Footprint Added.; DatasheetVersion: rev2.6, Nov-2000; PackageVersion: Jul-2001; PackageReference: SO28; Publisher: Altium Limited; PackageDescription: 28-Pin Plastic Small Outline Integrated Circuit 1.27 mm Pitch; ComponentLink1Description: Manufacturer Link; ComponentLink1URL: http://www.st.com/; ComponentLink2Description: Datasheet; ComponentLink2URL: http://www.st.com/stonline/products/literature/ds/6815/st72254g1.pdf
footprint SO28_N (SOIC, 28-Leads, Body 17.9x7.5mm, Pitch 1.27mm, IPC Medium Density)
footprint SO28_L (SOIC, 28-Leads, Body 17.9x7.5mm, Pitch 1.27mm, IPC High Density)
footprint SO28_M (SOIC, 28-Leads, Body 17.9x7.5mm, Pitch 1.27mm, IPC Low Density)
3D model SO28 (28-Pin Plastic Small Outline Integrated Circuit 1.27 mm Pitch)
pins: 1 ~{RESET} (io), 2 OSC1 (in), 3 OSC2 (out), 4 PB7/~{SS} (io), 5 PB6/SCK/ISPCLK (io), 6 PB5/MISO/ISPDATA (io), 7 PB4/MOSI (io), 8 PB3/OCMP2_A (io), 9 PB2/ICAP2_A (io), 10 PB1/OCMP1_A (io), 11 PB0/ICAP1_A (io), 12 PC5/EXTCLK_A/AIN5 (io), 13 PC4/OCMP2_B/AIN4 (io), 14 PC3/ICAP2_B/AIN3 (io), 15 PC2/MCO/AIN2 (io), 16 PC1/OCMP1_B/AIN1 (io), 17 PC0/ICAP1_B/AIN0 (io), 18 PA7 (HS) (io), 19 PA6 (HS)/SDAI (io), 20 PA5 (HS) (io), 21 PA4 (HS)/SCLI (io), 22 PA3 (HS) (io), 23 PA2 (HS) (io), 24 PA1 (HS) (io), 25 PA0 (HS) (io), 26 ISPSEL (in), 27 VSS (power), 28 VDD (power)

## ST72254G1M3
designator U?
8-Bit 4k ROM MCU, 256b RAM, WDG, ADC, 16-Bit Timers, SPI and I²C Interface, 28-Pin SOIC, Automotive; Note: Pins 4-25 are External Interrupt (EI) pins.; Published: 26-May-2004; LatestRevisionDate: 13-Apr-2006; LatestRevisionNote: IPC-7351 Footprint Added.; DatasheetVersion: rev2.6, Nov-2000; PackageVersion: Jul-2001; PackageReference: SO28; Publisher: Altium Limited; PackageDescription: 28-Pin Plastic Small Outline Integrated Circuit 1.27 mm Pitch; ComponentLink1Description: Manufacturer Link; ComponentLink1URL: http://www.st.com/; ComponentLink2Description: Datasheet; ComponentLink2URL: http://www.st.com/stonline/products/literature/ds/6815/st72254g1.pdf
footprint SO28_N (SOIC, 28-Leads, Body 17.9x7.5mm, Pitch 1.27mm, IPC Medium Density)
footprint SO28_L (SOIC, 28-Leads, Body 17.9x7.5mm, Pitch 1.27mm, IPC High Density)
footprint SO28_M (SOIC, 28-Leads, Body 17.9x7.5mm, Pitch 1.27mm, IPC Low Density)
3D model SO28 (28-Pin Plastic Small Outline Integrated Circuit 1.27 mm Pitch)
pins: 1 ~{RESET} (io), 2 OSC1 (in), 3 OSC2 (out), 4 PB7/~{SS} (io), 5 PB6/SCK/ISPCLK (io), 6 PB5/MISO/ISPDATA (io), 7 PB4/MOSI (io), 8 PB3/OCMP2_A (io), 9 PB2/ICAP2_A (io), 10 PB1/OCMP1_A (io), 11 PB0/ICAP1_A (io), 12 PC5/EXTCLK_A/AIN5 (io), 13 PC4/OCMP2_B/AIN4 (io), 14 PC3/ICAP2_B/AIN3 (io), 15 PC2/MCO/AIN2 (io), 16 PC1/OCMP1_B/AIN1 (io), 17 PC0/ICAP1_B/AIN0 (io), 18 PA7 (HS) (io), 19 PA6 (HS)/SDAI (io), 20 PA5 (HS) (io), 21 PA4 (HS)/SCLI (io), 22 PA3 (HS) (io), 23 PA2 (HS) (io), 24 PA1 (HS) (io), 25 PA0 (HS) (io), 26 ISPSEL (in), 27 VSS (power), 28 VDD (power)

## ST72254G1M6
designator U?
8-Bit 4k ROM MCU, 256b RAM, WDG, ADC, 16-Bit Timers, SPI and I²C Interface, 28-Pin SOIC, Industrial; Note: Pins 4-25 are External Interrupt (EI) pins.; Published: 26-May-2004; LatestRevisionDate: 13-Apr-2006; LatestRevisionNote: IPC-7351 Footprint Added.; DatasheetVersion: rev2.6, Nov-2000; PackageVersion: Jul-2001; PackageReference: SO28; Publisher: Altium Limited; PackageDescription: 28-Pin Plastic Small Outline Integrated Circuit 1.27 mm Pitch; ComponentLink1Description: Manufacturer Link; ComponentLink1URL: http://www.st.com/; ComponentLink2Description: Datasheet; ComponentLink2URL: http://www.st.com/stonline/products/literature/ds/6815/st72254g1.pdf
footprint SO28_N (SOIC, 28-Leads, Body 17.9x7.5mm, Pitch 1.27mm, IPC Medium Density)
footprint SO28_L (SOIC, 28-Leads, Body 17.9x7.5mm, Pitch 1.27mm, IPC High Density)
footprint SO28_M (SOIC, 28-Leads, Body 17.9x7.5mm, Pitch 1.27mm, IPC Low Density)
3D model SO28 (28-Pin Plastic Small Outline Integrated Circuit 1.27 mm Pitch)
pins: 1 ~{RESET} (io), 2 OSC1 (in), 3 OSC2 (out), 4 PB7/~{SS} (io), 5 PB6/SCK/ISPCLK (io), 6 PB5/MISO/ISPDATA (io), 7 PB4/MOSI (io), 8 PB3/OCMP2_A (io), 9 PB2/ICAP2_A (io), 10 PB1/OCMP1_A (io), 11 PB0/ICAP1_A (io), 12 PC5/EXTCLK_A/AIN5 (io), 13 PC4/OCMP2_B/AIN4 (io), 14 PC3/ICAP2_B/AIN3 (io), 15 PC2/MCO/AIN2 (io), 16 PC1/OCMP1_B/AIN1 (io), 17 PC0/ICAP1_B/AIN0 (io), 18 PA7 (HS) (io), 19 PA6 (HS)/SDAI (io), 20 PA5 (HS) (io), 21 PA4 (HS)/SCLI (io), 22 PA3 (HS) (io), 23 PA2 (HS) (io), 24 PA1 (HS) (io), 25 PA0 (HS) (io), 26 ISPSEL (in), 27 VSS (power), 28 VDD (power)

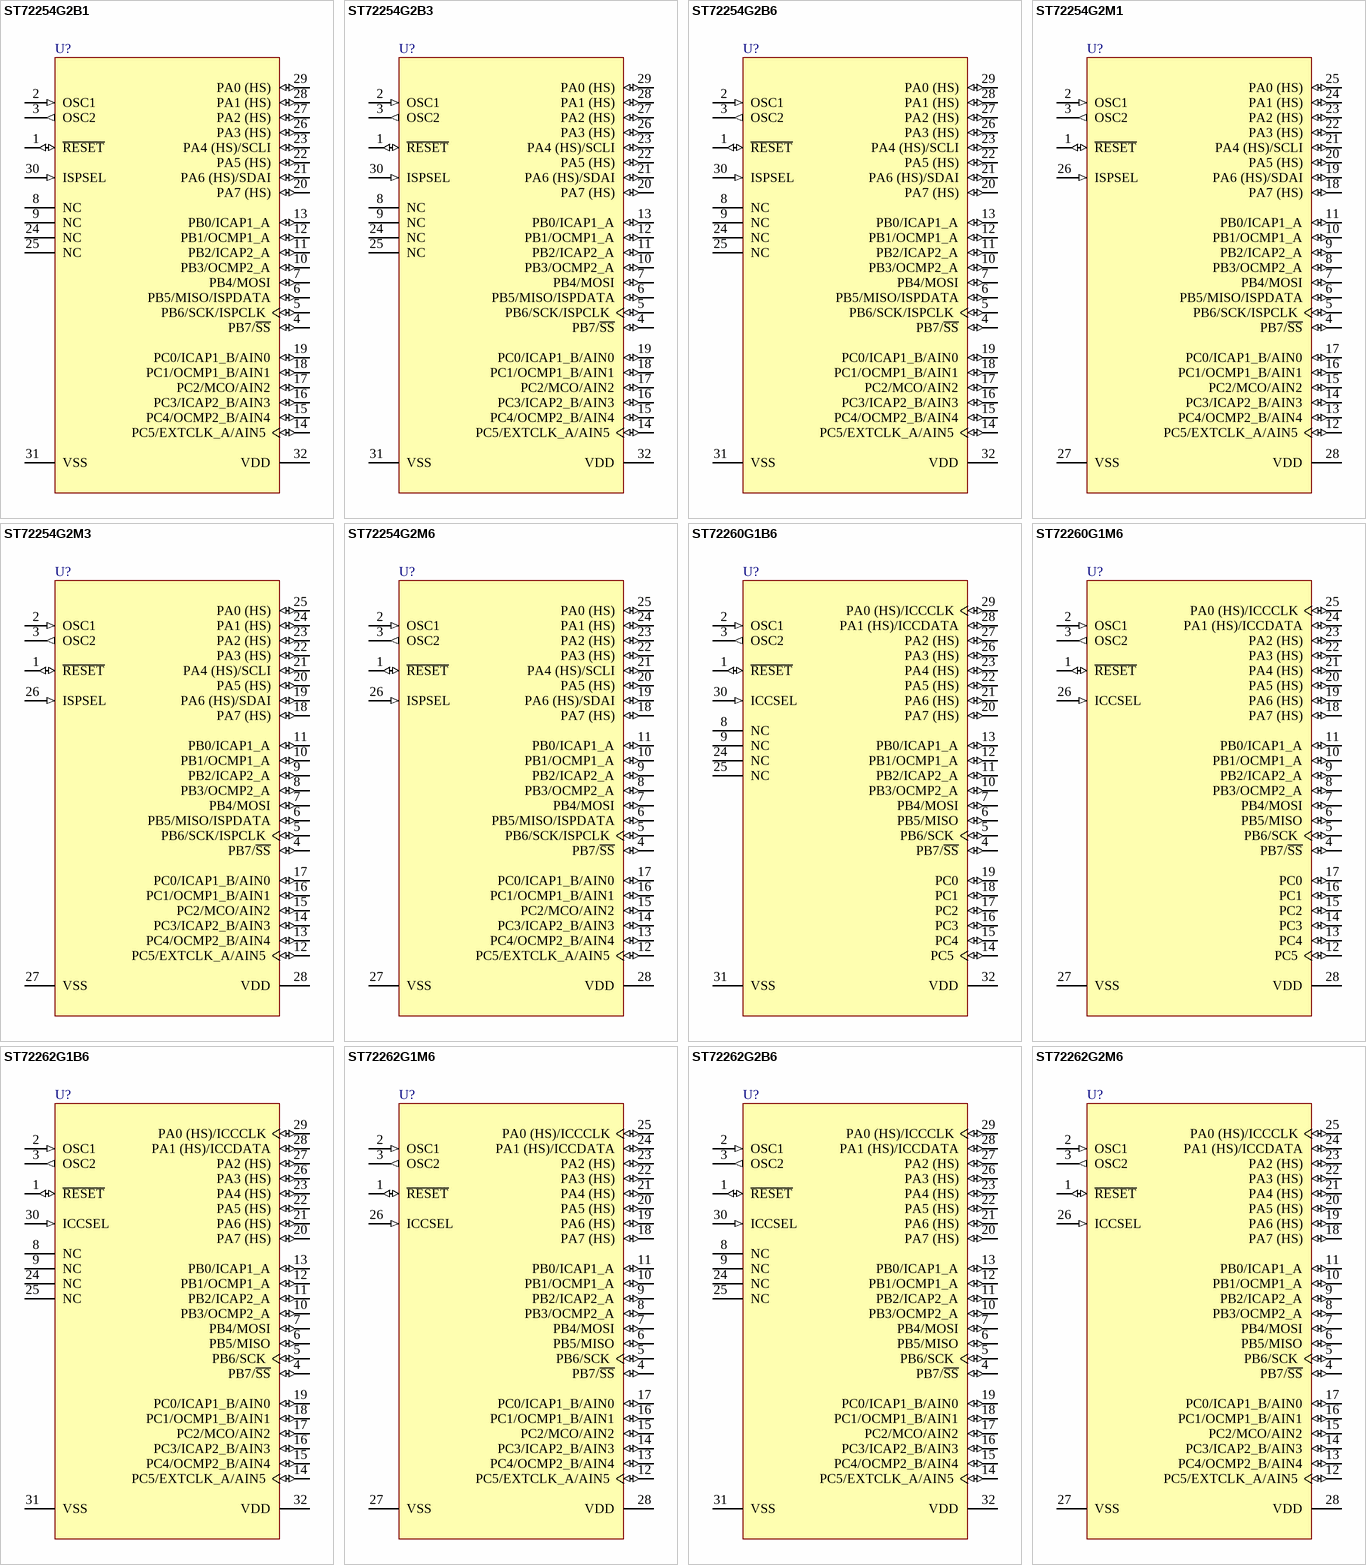
[diagram p102: symbols ST72254G2B1 to ST72262G2M6]

## ST72254G2B1
designator U?
8-Bit 8k ROM MCU, 256b RAM, WDG, ADC, 16-Bit Timers, SPI and I²C Interface, 32-Pin PDIP, Standard; Note: Pins 4-7, 14-23 and 26-29 are External Interrupt (EI) pins.; Published: 26-May-2004; LatestRevisionDate: 06-Jun-2005; LatestRevisionNote: Stylized 3D Model Added.; DatasheetVersion: rev2.6, Nov-2000; PackageVersion: rev1.7, Oct-2001; PackageReference: PSDIP32; Publisher: Altium Limited; PackageDescription: DIP, Plastic Shrink; 32 Leads; Row Spacing 10.16 mm; Pitch 1.78 mm; ComponentLink1Description: Manufacturer Link; ComponentLink1URL: http://www.st.com/; ComponentLink2Description: Datasheet; ComponentLink2URL: http://www.st.com/stonline/products/literature/ds/6815/st72254g2.pdf
footprint PSDIP32 (DIP, Plastic Shrink; 32 Leads; Row Spacing 10.16 mm; Pitch 1.78 mm)
3D model PSDIP32 (DIP, Plastic Shrink; 32 Leads; Row Spacing 10.16 mm; Pitch 1.78 mm)
pins: 1 ~{RESET} (io), 2 OSC1 (in), 3 OSC2 (out), 4 PB7/~{SS} (io), 5 PB6/SCK/ISPCLK (io), 6 PB5/MISO/ISPDATA (io), 7 PB4/MOSI (io), 8 NC, 9 NC, 10 PB3/OCMP2_A (io), 11 PB2/ICAP2_A (io), 12 PB1/OCMP1_A (io), 13 PB0/ICAP1_A (io), 14 PC5/EXTCLK_A/AIN5 (io), 15 PC4/OCMP2_B/AIN4 (io), 16 PC3/ICAP2_B/AIN3 (io), 17 PC2/MCO/AIN2 (io), 18 PC1/OCMP1_B/AIN1 (io), 19 PC0/ICAP1_B/AIN0 (io), 20 PA7 (HS) (io), 21 PA6 (HS)/SDAI (io), 22 PA5 (HS) (io), 23 PA4 (HS)/SCLI (io), 24 NC, 25 NC, 26 PA3 (HS) (io), 27 PA2 (HS) (io), 28 PA1 (HS) (io), 29 PA0 (HS) (io), 30 ISPSEL (in), 31 VSS (power), 32 VDD (power)

## ST72254G2B3
designator U?
8-Bit 8k ROM MCU, 256b RAM, WDG, ADC, 16-Bit Timers, SPI and I²C Interface, 32-Pin PDIP, Automotive; Note: Pins 4-7, 14-23 and 26-29 are External Interrupt (EI) pins.; Published: 26-May-2004; LatestRevisionDate: 06-Jun-2005; LatestRevisionNote: Stylized 3D Model Added.; DatasheetVersion: rev2.6, Nov-2000; PackageVersion: rev1.7, Oct-2001; PackageReference: PSDIP32; Publisher: Altium Limited; PackageDescription: DIP, Plastic Shrink; 32 Leads; Row Spacing 10.16 mm; Pitch 1.78 mm; ComponentLink1Description: Manufacturer Link; ComponentLink1URL: http://www.st.com/; ComponentLink2Description: Datasheet; ComponentLink2URL: http://www.st.com/stonline/products/literature/ds/6815/st72254g2.pdf
footprint PSDIP32 (DIP, Plastic Shrink; 32 Leads; Row Spacing 10.16 mm; Pitch 1.78 mm)
3D model PSDIP32 (DIP, Plastic Shrink; 32 Leads; Row Spacing 10.16 mm; Pitch 1.78 mm)
pins: 1 ~{RESET} (io), 2 OSC1 (in), 3 OSC2 (out), 4 PB7/~{SS} (io), 5 PB6/SCK/ISPCLK (io), 6 PB5/MISO/ISPDATA (io), 7 PB4/MOSI (io), 8 NC, 9 NC, 10 PB3/OCMP2_A (io), 11 PB2/ICAP2_A (io), 12 PB1/OCMP1_A (io), 13 PB0/ICAP1_A (io), 14 PC5/EXTCLK_A/AIN5 (io), 15 PC4/OCMP2_B/AIN4 (io), 16 PC3/ICAP2_B/AIN3 (io), 17 PC2/MCO/AIN2 (io), 18 PC1/OCMP1_B/AIN1 (io), 19 PC0/ICAP1_B/AIN0 (io), 20 PA7 (HS) (io), 21 PA6 (HS)/SDAI (io), 22 PA5 (HS) (io), 23 PA4 (HS)/SCLI (io), 24 NC, 25 NC, 26 PA3 (HS) (io), 27 PA2 (HS) (io), 28 PA1 (HS) (io), 29 PA0 (HS) (io), 30 ISPSEL (in), 31 VSS (power), 32 VDD (power)

## ST72254G2B6
designator U?
8-Bit 8k ROM MCU, 256b RAM, WDG, ADC, 16-Bit Timers, SPI and I²C Interface, 32-Pin PDIP, Industrial; Note: Pins 4-7, 14-23 and 26-29 are External Interrupt (EI) pins.; Published: 26-May-2004; LatestRevisionDate: 06-Jun-2005; LatestRevisionNote: Stylized 3D Model Added.; DatasheetVersion: rev2.6, Nov-2000; PackageVersion: rev1.7, Oct-2001; PackageReference: PSDIP32; Publisher: Altium Limited; PackageDescription: DIP, Plastic Shrink; 32 Leads; Row Spacing 10.16 mm; Pitch 1.78 mm; ComponentLink1Description: Manufacturer Link; ComponentLink1URL: http://www.st.com/; ComponentLink2Description: Datasheet; ComponentLink2URL: http://www.st.com/stonline/products/literature/ds/6815/st72254g2.pdf
footprint PSDIP32 (DIP, Plastic Shrink; 32 Leads; Row Spacing 10.16 mm; Pitch 1.78 mm)
3D model PSDIP32 (DIP, Plastic Shrink; 32 Leads; Row Spacing 10.16 mm; Pitch 1.78 mm)
pins: 1 ~{RESET} (io), 2 OSC1 (in), 3 OSC2 (out), 4 PB7/~{SS} (io), 5 PB6/SCK/ISPCLK (io), 6 PB5/MISO/ISPDATA (io), 7 PB4/MOSI (io), 8 NC, 9 NC, 10 PB3/OCMP2_A (io), 11 PB2/ICAP2_A (io), 12 PB1/OCMP1_A (io), 13 PB0/ICAP1_A (io), 14 PC5/EXTCLK_A/AIN5 (io), 15 PC4/OCMP2_B/AIN4 (io), 16 PC3/ICAP2_B/AIN3 (io), 17 PC2/MCO/AIN2 (io), 18 PC1/OCMP1_B/AIN1 (io), 19 PC0/ICAP1_B/AIN0 (io), 20 PA7 (HS) (io), 21 PA6 (HS)/SDAI (io), 22 PA5 (HS) (io), 23 PA4 (HS)/SCLI (io), 24 NC, 25 NC, 26 PA3 (HS) (io), 27 PA2 (HS) (io), 28 PA1 (HS) (io), 29 PA0 (HS) (io), 30 ISPSEL (in), 31 VSS (power), 32 VDD (power)

## ST72254G2M1
designator U?
8-Bit 8k ROM MCU, 256b RAM, WDG, ADC, 16-Bit Timers, SPI and I²C Interface, 28-Pin SOIC, Standard; Note: Pins 4-25 are External Interrupt (EI) pins.; Published: 26-May-2004; LatestRevisionDate: 13-Apr-2006; LatestRevisionNote: IPC-7351 Footprint Added.; DatasheetVersion: rev2.6, Nov-2000; PackageVersion: Jul-2001; PackageReference: SO28; Publisher: Altium Limited; PackageDescription: 28-Pin Plastic Small Outline Integrated Circuit 1.27 mm Pitch; ComponentLink1Description: Manufacturer Link; ComponentLink1URL: http://www.st.com/; ComponentLink2Description: Datasheet; ComponentLink2URL: http://www.st.com/stonline/products/literature/ds/6815/st72254g2.pdf
footprint SO28_N (SOIC, 28-Leads, Body 17.9x7.5mm, Pitch 1.27mm, IPC Medium Density)
footprint SO28_L (SOIC, 28-Leads, Body 17.9x7.5mm, Pitch 1.27mm, IPC High Density)
footprint SO28_M (SOIC, 28-Leads, Body 17.9x7.5mm, Pitch 1.27mm, IPC Low Density)
3D model SO28 (28-Pin Plastic Small Outline Integrated Circuit 1.27 mm Pitch)
pins: 1 ~{RESET} (io), 2 OSC1 (in), 3 OSC2 (out), 4 PB7/~{SS} (io), 5 PB6/SCK/ISPCLK (io), 6 PB5/MISO/ISPDATA (io), 7 PB4/MOSI (io), 8 PB3/OCMP2_A (io), 9 PB2/ICAP2_A (io), 10 PB1/OCMP1_A (io), 11 PB0/ICAP1_A (io), 12 PC5/EXTCLK_A/AIN5 (io), 13 PC4/OCMP2_B/AIN4 (io), 14 PC3/ICAP2_B/AIN3 (io), 15 PC2/MCO/AIN2 (io), 16 PC1/OCMP1_B/AIN1 (io), 17 PC0/ICAP1_B/AIN0 (io), 18 PA7 (HS) (io), 19 PA6 (HS)/SDAI (io), 20 PA5 (HS) (io), 21 PA4 (HS)/SCLI (io), 22 PA3 (HS) (io), 23 PA2 (HS) (io), 24 PA1 (HS) (io), 25 PA0 (HS) (io), 26 ISPSEL (in), 27 VSS (power), 28 VDD (power)

## ST72254G2M3
designator U?
8-Bit 8k ROM MCU, 256b RAM, WDG, ADC, 16-Bit Timers, SPI and I²C Interface, 28-Pin SOIC, Automotive; Note: Pins 4-25 are External Interrupt (EI) pins.; Published: 26-May-2004; LatestRevisionDate: 13-Apr-2006; LatestRevisionNote: IPC-7351 Footprint Added.; DatasheetVersion: rev2.6, Nov-2000; PackageVersion: Jul-2001; PackageReference: SO28; Publisher: Altium Limited; PackageDescription: 28-Pin Plastic Small Outline Integrated Circuit 1.27 mm Pitch; ComponentLink1Description: Manufacturer Link; ComponentLink1URL: http://www.st.com/; ComponentLink2Description: Datasheet; ComponentLink2URL: http://www.st.com/stonline/products/literature/ds/6815/st72254g2.pdf
footprint SO28_N (SOIC, 28-Leads, Body 17.9x7.5mm, Pitch 1.27mm, IPC Medium Density)
footprint SO28_L (SOIC, 28-Leads, Body 17.9x7.5mm, Pitch 1.27mm, IPC High Density)
footprint SO28_M (SOIC, 28-Leads, Body 17.9x7.5mm, Pitch 1.27mm, IPC Low Density)
3D model SO28 (28-Pin Plastic Small Outline Integrated Circuit 1.27 mm Pitch)
pins: 1 ~{RESET} (io), 2 OSC1 (in), 3 OSC2 (out), 4 PB7/~{SS} (io), 5 PB6/SCK/ISPCLK (io), 6 PB5/MISO/ISPDATA (io), 7 PB4/MOSI (io), 8 PB3/OCMP2_A (io), 9 PB2/ICAP2_A (io), 10 PB1/OCMP1_A (io), 11 PB0/ICAP1_A (io), 12 PC5/EXTCLK_A/AIN5 (io), 13 PC4/OCMP2_B/AIN4 (io), 14 PC3/ICAP2_B/AIN3 (io), 15 PC2/MCO/AIN2 (io), 16 PC1/OCMP1_B/AIN1 (io), 17 PC0/ICAP1_B/AIN0 (io), 18 PA7 (HS) (io), 19 PA6 (HS)/SDAI (io), 20 PA5 (HS) (io), 21 PA4 (HS)/SCLI (io), 22 PA3 (HS) (io), 23 PA2 (HS) (io), 24 PA1 (HS) (io), 25 PA0 (HS) (io), 26 ISPSEL (in), 27 VSS (power), 28 VDD (power)

## ST72254G2M6
designator U?
8-Bit 8k ROM MCU, 256b RAM, WDG, ADC, 16-Bit Timers, SPI and I²C Interface, 28-Pin SOIC, Industrial; Note: Pins 4-25 are External Interrupt (EI) pins.; Published: 26-May-2004; LatestRevisionDate: 13-Apr-2006; LatestRevisionNote: IPC-7351 Footprint Added.; DatasheetVersion: rev2.6, Nov-2000; PackageVersion: Jul-2001; PackageReference: SO28; Publisher: Altium Limited; PackageDescription: 28-Pin Plastic Small Outline Integrated Circuit 1.27 mm Pitch; ComponentLink1Description: Manufacturer Link; ComponentLink1URL: http://www.st.com/; ComponentLink2Description: Datasheet; ComponentLink2URL: http://www.st.com/stonline/products/literature/ds/6815/st72254g2.pdf
footprint SO28_N (SOIC, 28-Leads, Body 17.9x7.5mm, Pitch 1.27mm, IPC Medium Density)
footprint SO28_L (SOIC, 28-Leads, Body 17.9x7.5mm, Pitch 1.27mm, IPC High Density)
footprint SO28_M (SOIC, 28-Leads, Body 17.9x7.5mm, Pitch 1.27mm, IPC Low Density)
3D model SO28 (28-Pin Plastic Small Outline Integrated Circuit 1.27 mm Pitch)
pins: 1 ~{RESET} (io), 2 OSC1 (in), 3 OSC2 (out), 4 PB7/~{SS} (io), 5 PB6/SCK/ISPCLK (io), 6 PB5/MISO/ISPDATA (io), 7 PB4/MOSI (io), 8 PB3/OCMP2_A (io), 9 PB2/ICAP2_A (io), 10 PB1/OCMP1_A (io), 11 PB0/ICAP1_A (io), 12 PC5/EXTCLK_A/AIN5 (io), 13 PC4/OCMP2_B/AIN4 (io), 14 PC3/ICAP2_B/AIN3 (io), 15 PC2/MCO/AIN2 (io), 16 PC1/OCMP1_B/AIN1 (io), 17 PC0/ICAP1_B/AIN0 (io), 18 PA7 (HS) (io), 19 PA6 (HS)/SDAI (io), 20 PA5 (HS) (io), 21 PA4 (HS)/SCLI (io), 22 PA3 (HS) (io), 23 PA2 (HS) (io), 24 PA1 (HS) (io), 25 PA0 (HS) (io), 26 ISPSEL (in), 27 VSS (power), 28 VDD (power)

## ST72260G1B6
designator U?
8-Bit MCU with 4k ROM Memory, 256b RAM, 16-Bit Timers, WDG, RTC and SPI Interface, 32-Pin PDIP, Industrial; Published: 26-May-2004; LatestRevisionDate: 06-Jun-2005; LatestRevisionNote: Stylized 3D Model Added.; DatasheetVersion: rev1.8, Nov-2003; PackageVersion: rev1.7, Oct-2001; PackageReference: PSDIP32; Publisher: Altium Limited; PackageDescription: DIP, Plastic Shrink; 32 Leads; Row Spacing 10.16 mm; Pitch 1.78 mm; ComponentLink1Description: Manufacturer Link; ComponentLink1URL: http://www.st.com/; ComponentLink2Description: Datasheet; ComponentLink2URL: http://www.st.com/stonline/products/literature/ds/8347/st72260g.pdf
footprint PSDIP32 (DIP, Plastic Shrink; 32 Leads; Row Spacing 10.16 mm; Pitch 1.78 mm)
3D model PSDIP32 (DIP, Plastic Shrink; 32 Leads; Row Spacing 10.16 mm; Pitch 1.78 mm)
pins: 1 ~{RESET} (io), 2 OSC1 (in), 3 OSC2 (out), 4 PB7/~{SS} (io), 5 PB6/SCK (io), 6 PB5/MISO (io), 7 PB4/MOSI (io), 8 NC, 9 NC, 10 PB3/OCMP2_A (io), 11 PB2/ICAP2_A (io), 12 PB1/OCMP1_A (io), 13 PB0/ICAP1_A (io), 14 PC5 (io), 15 PC4 (io), 16 PC3 (io), 17 PC2 (io), 18 PC1 (io), 19 PC0 (io), 20 PA7 (HS) (io), 21 PA6 (HS) (io), 22 PA5 (HS) (io), 23 PA4 (HS) (io), 24 NC, 25 NC, 26 PA3 (HS) (io), 27 PA2 (HS) (io), 28 PA1 (HS)/ICCDATA (io), 29 PA0 (HS)/ICCCLK (io), 30 ICCSEL (in), 31 VSS (power), 32 VDD (power)

## ST72260G1M6
designator U?
8-Bit MCU with 4k ROM Memory, 256b RAM, 16-Bit Timers, WDG, RTC and SPI Interface, 28-Pin SOIC, Industrial; Published: 26-May-2004; LatestRevisionDate: 13-Apr-2006; LatestRevisionNote: IPC-7351 Footprint Added.; DatasheetVersion: rev1.8, Nov-2003; PackageVersion: Jul-2001; PackageReference: SO28; Publisher: Altium Limited; PackageDescription: 28-Pin Plastic Small Outline Integrated Circuit 1.27 mm Pitch; ComponentLink1Description: Manufacturer Link; ComponentLink1URL: http://www.st.com/; ComponentLink2Description: Datasheet; ComponentLink2URL: http://www.st.com/stonline/products/literature/ds/8347/st72260g.pdf
footprint SO28_N (SOIC, 28-Leads, Body 17.9x7.5mm, Pitch 1.27mm, IPC Medium Density)
footprint SO28_L (SOIC, 28-Leads, Body 17.9x7.5mm, Pitch 1.27mm, IPC High Density)
footprint SO28_M (SOIC, 28-Leads, Body 17.9x7.5mm, Pitch 1.27mm, IPC Low Density)
3D model SO28 (28-Pin Plastic Small Outline Integrated Circuit 1.27 mm Pitch)
pins: 1 ~{RESET} (io), 2 OSC1 (in), 3 OSC2 (out), 4 PB7/~{SS} (io), 5 PB6/SCK (io), 6 PB5/MISO (io), 7 PB4/MOSI (io), 8 PB3/OCMP2_A (io), 9 PB2/ICAP2_A (io), 10 PB1/OCMP1_A (io), 11 PB0/ICAP1_A (io), 12 PC5 (io), 13 PC4 (io), 14 PC3 (io), 15 PC2 (io), 16 PC1 (io), 17 PC0 (io), 18 PA7 (HS) (io), 19 PA6 (HS) (io), 20 PA5 (HS) (io), 21 PA4 (HS) (io), 22 PA3 (HS) (io), 23 PA2 (HS) (io), 24 PA1 (HS)/ICCDATA (io), 25 PA0 (HS)/ICCCLK (io), 26 ICCSEL (in), 27 VSS (power), 28 VDD (power)

## ST72262G1B6
designator U?
8-Bit MCU with 4k ROM Memory, 256b RAM, ADC, 16-Bit Timers, WDG, RTC and SPI Interface, 32-Pin PDIP, Industrial; Published: 26-May-2004; LatestRevisionDate: 06-Jun-2005; LatestRevisionNote: Stylized 3D Model Added.; DatasheetVersion: rev1.8, Nov-2003; PackageVersion: rev1.7, Oct-2001; PackageReference: PSDIP32; Publisher: Altium Limited; PackageDescription: DIP, Plastic Shrink; 32 Leads; Row Spacing 10.16 mm; Pitch 1.78 mm; ComponentLink1Description: Manufacturer Link; ComponentLink1URL: http://www.st.com/; ComponentLink2Description: Datasheet; ComponentLink2URL: http://www.st.com/stonline/products/literature/ds/8347/st72262g.pdf
footprint PSDIP32 (DIP, Plastic Shrink; 32 Leads; Row Spacing 10.16 mm; Pitch 1.78 mm)
3D model PSDIP32 (DIP, Plastic Shrink; 32 Leads; Row Spacing 10.16 mm; Pitch 1.78 mm)
pins: 1 ~{RESET} (io), 2 OSC1 (in), 3 OSC2 (out), 4 PB7/~{SS} (io), 5 PB6/SCK (io), 6 PB5/MISO (io), 7 PB4/MOSI (io), 8 NC, 9 NC, 10 PB3/OCMP2_A (io), 11 PB2/ICAP2_A (io), 12 PB1/OCMP1_A (io), 13 PB0/ICAP1_A (io), 14 PC5/EXTCLK_A/AIN5 (io), 15 PC4/OCMP2_B/AIN4 (io), 16 PC3/ICAP2_B/AIN3 (io), 17 PC2/MCO/AIN2 (io), 18 PC1/OCMP1_B/AIN1 (io), 19 PC0/ICAP1_B/AIN0 (io), 20 PA7 (HS) (io), 21 PA6 (HS) (io), 22 PA5 (HS) (io), 23 PA4 (HS) (io), 24 NC, 25 NC, 26 PA3 (HS) (io), 27 PA2 (HS) (io), 28 PA1 (HS)/ICCDATA (io), 29 PA0 (HS)/ICCCLK (io), 30 ICCSEL (in), 31 VSS (power), 32 VDD (power)

## ST72262G1M6
designator U?
8-Bit MCU with 4k ROM Memory, 256b RAM, ADC, 16-Bit Timers, WDG, RTC and SPI Interface, 28-Pin SOIC, Industrial; Published: 26-May-2004; LatestRevisionDate: 13-Apr-2006; LatestRevisionNote: IPC-7351 Footprint Added.; DatasheetVersion: rev1.8, Nov-2003; PackageVersion: Jul-2001; PackageReference: SO28; Publisher: Altium Limited; PackageDescription: 28-Pin Plastic Small Outline Integrated Circuit 1.27 mm Pitch; ComponentLink1Description: Manufacturer Link; ComponentLink1URL: http://www.st.com/; ComponentLink2Description: Datasheet; ComponentLink2URL: http://www.st.com/stonline/products/literature/ds/8347/st72262g.pdf
footprint SO28_N (SOIC, 28-Leads, Body 17.9x7.5mm, Pitch 1.27mm, IPC Medium Density)
footprint SO28_L (SOIC, 28-Leads, Body 17.9x7.5mm, Pitch 1.27mm, IPC High Density)
footprint SO28_M (SOIC, 28-Leads, Body 17.9x7.5mm, Pitch 1.27mm, IPC Low Density)
3D model SO28 (28-Pin Plastic Small Outline Integrated Circuit 1.27 mm Pitch)
pins: 1 ~{RESET} (io), 2 OSC1 (in), 3 OSC2 (out), 4 PB7/~{SS} (io), 5 PB6/SCK (io), 6 PB5/MISO (io), 7 PB4/MOSI (io), 8 PB3/OCMP2_A (io), 9 PB2/ICAP2_A (io), 10 PB1/OCMP1_A (io), 11 PB0/ICAP1_A (io), 12 PC5/EXTCLK_A/AIN5 (io), 13 PC4/OCMP2_B/AIN4 (io), 14 PC3/ICAP2_B/AIN3 (io), 15 PC2/MCO/AIN2 (io), 16 PC1/OCMP1_B/AIN1 (io), 17 PC0/ICAP1_B/AIN0 (io), 18 PA7 (HS) (io), 19 PA6 (HS) (io), 20 PA5 (HS) (io), 21 PA4 (HS) (io), 22 PA3 (HS) (io), 23 PA2 (HS) (io), 24 PA1 (HS)/ICCDATA (io), 25 PA0 (HS)/ICCCLK (io), 26 ICCSEL (in), 27 VSS (power), 28 VDD (power)

## ST72262G2B6
designator U?
8-Bit MCU with 8k ROM Memory, 256b RAM, ADC, 16-Bit Timers, WDG, RTC and SPI Interface, 32-Pin PDIP, Industrial; Published: 26-May-2004; LatestRevisionDate: 06-Jun-2005; LatestRevisionNote: Stylized 3D Model Added.; DatasheetVersion: rev1.8, Nov-2003; PackageVersion: rev1.7, Oct-2001; PackageReference: PSDIP32; Publisher: Altium Limited; PackageDescription: DIP, Plastic Shrink; 32 Leads; Row Spacing 10.16 mm; Pitch 1.78 mm; ComponentLink1Description: Manufacturer Link; ComponentLink1URL: http://www.st.com/; ComponentLink2Description: Datasheet; ComponentLink2URL: http://www.st.com/stonline/products/literature/ds/8347/st72262g.pdf
footprint PSDIP32 (DIP, Plastic Shrink; 32 Leads; Row Spacing 10.16 mm; Pitch 1.78 mm)
3D model PSDIP32 (DIP, Plastic Shrink; 32 Leads; Row Spacing 10.16 mm; Pitch 1.78 mm)
pins: 1 ~{RESET} (io), 2 OSC1 (in), 3 OSC2 (out), 4 PB7/~{SS} (io), 5 PB6/SCK (io), 6 PB5/MISO (io), 7 PB4/MOSI (io), 8 NC, 9 NC, 10 PB3/OCMP2_A (io), 11 PB2/ICAP2_A (io), 12 PB1/OCMP1_A (io), 13 PB0/ICAP1_A (io), 14 PC5/EXTCLK_A/AIN5 (io), 15 PC4/OCMP2_B/AIN4 (io), 16 PC3/ICAP2_B/AIN3 (io), 17 PC2/MCO/AIN2 (io), 18 PC1/OCMP1_B/AIN1 (io), 19 PC0/ICAP1_B/AIN0 (io), 20 PA7 (HS) (io), 21 PA6 (HS) (io), 22 PA5 (HS) (io), 23 PA4 (HS) (io), 24 NC, 25 NC, 26 PA3 (HS) (io), 27 PA2 (HS) (io), 28 PA1 (HS)/ICCDATA (io), 29 PA0 (HS)/ICCCLK (io), 30 ICCSEL (in), 31 VSS (power), 32 VDD (power)

## ST72262G2M6
designator U?
8-Bit MCU with 8k ROM Memory, 256b RAM, ADC, 16-Bit Timers, WDG, RTC and SPI Interface, 28-Pin SOIC, Industrial; Published: 26-May-2004; LatestRevisionDate: 13-Apr-2006; LatestRevisionNote: IPC-7351 Footprint Added.; DatasheetVersion: rev1.8, Nov-2003; PackageVersion: Jul-2001; PackageReference: SO28; Publisher: Altium Limited; PackageDescription: 28-Pin Plastic Small Outline Integrated Circuit 1.27 mm Pitch; ComponentLink1Description: Manufacturer Link; ComponentLink1URL: http://www.st.com/; ComponentLink2Description: Datasheet; ComponentLink2URL: http://www.st.com/stonline/products/literature/ds/8347/st72262g.pdf
footprint SO28_N (SOIC, 28-Leads, Body 17.9x7.5mm, Pitch 1.27mm, IPC Medium Density)
footprint SO28_L (SOIC, 28-Leads, Body 17.9x7.5mm, Pitch 1.27mm, IPC High Density)
footprint SO28_M (SOIC, 28-Leads, Body 17.9x7.5mm, Pitch 1.27mm, IPC Low Density)
3D model SO28 (28-Pin Plastic Small Outline Integrated Circuit 1.27 mm Pitch)
pins: 1 ~{RESET} (io), 2 OSC1 (in), 3 OSC2 (out), 4 PB7/~{SS} (io), 5 PB6/SCK (io), 6 PB5/MISO (io), 7 PB4/MOSI (io), 8 PB3/OCMP2_A (io), 9 PB2/ICAP2_A (io), 10 PB1/OCMP1_A (io), 11 PB0/ICAP1_A (io), 12 PC5/EXTCLK_A/AIN5 (io), 13 PC4/OCMP2_B/AIN4 (io), 14 PC3/ICAP2_B/AIN3 (io), 15 PC2/MCO/AIN2 (io), 16 PC1/OCMP1_B/AIN1 (io), 17 PC0/ICAP1_B/AIN0 (io), 18 PA7 (HS) (io), 19 PA6 (HS) (io), 20 PA5 (HS) (io), 21 PA4 (HS) (io), 22 PA3 (HS) (io), 23 PA2 (HS) (io), 24 PA1 (HS)/ICCDATA (io), 25 PA0 (HS)/ICCCLK (io), 26 ICCSEL (in), 27 VSS (power), 28 VDD (power)

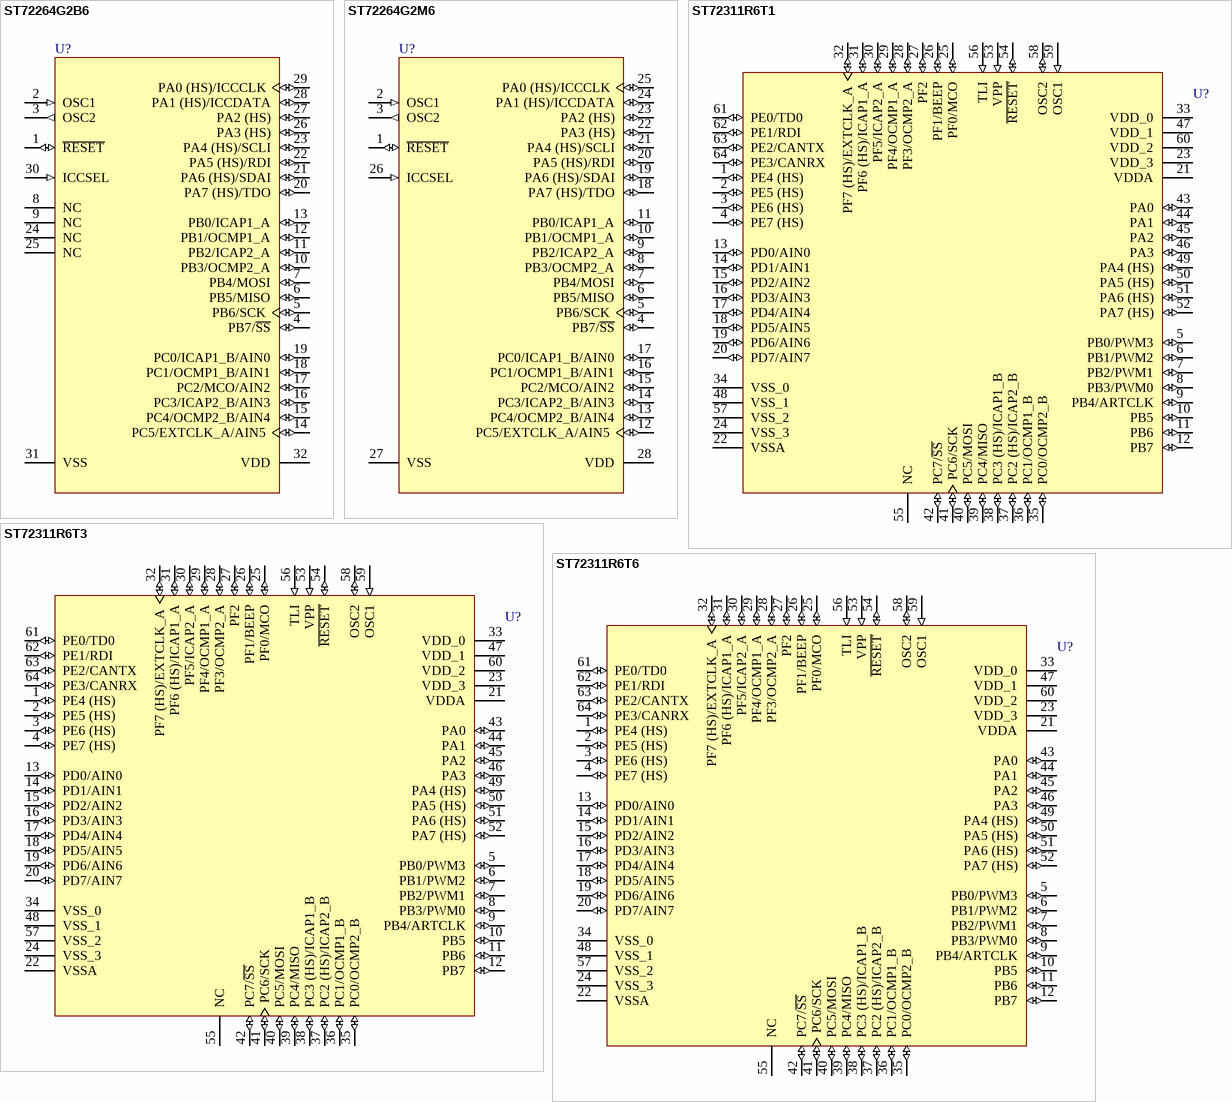
[diagram p103: symbols ST72264G2B6 to ST72311R6T6]